# Altium footprint library MTJ-883X1.PcbLib: 1 footprints
Each footprint in its own frame and in the unit in brackets; x right, y up, seen from the top. Pads: shape width x height; smd on the part's side, far side on the other; paste and mask are expansions set on the pad; w line width, h text height; cw(c..) or ccw(c..) is an arc to the next point about the centre after c.
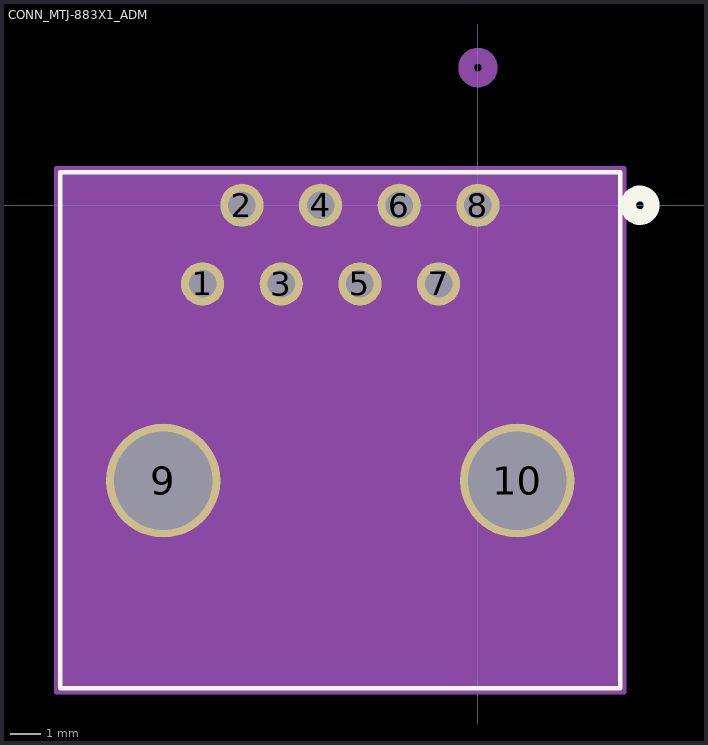
[diagram p0: the footprint, top view; thin cyan lines are the x and y axes]

## CONN_MTJ-883X1_ADM [mil]
pads (10):
  round 55 / inner round 60 / far side round 55 hole 35 paste-99999 mask+0: 1(-350,-100) 2(-300,0) 3(-250,-100) 4(-200,0) 5(-150,-100) 6(-100,0) 7(-50,-100) 8(0,0)
  round 145 / inner round 60 / far side round 145 hole 125 paste-99999 mask-72.5: 9(-400,-350) 10(50,-350)
Top Overlay:
  circle w20: c206,0 r15
  lines w6: -531,-613.99 -531,42.01 181,42.01 181,-613.99 -531,-613.99
Bottom Overlay:
  circle w20: c206,0 r15
Mechanical 13:
  circle w20: c0,175 r15
  lines w1: -526,-608.99 -526,37.01 176,37.01 176,-608.99 -526,-608.99
Mechanical 15:
  region: 186,47.01 -536,47.01 -536,-618.99 186,-618.99
  lines w6: -536,-618.99 186,-618.99 186,47.01 -536,47.01 -536,-618.99